# Altium schematic symbol library Chip_SOP.SchLib: 4 symbols
Pins are listed as number, name and electrical type; pins without a type are passive.

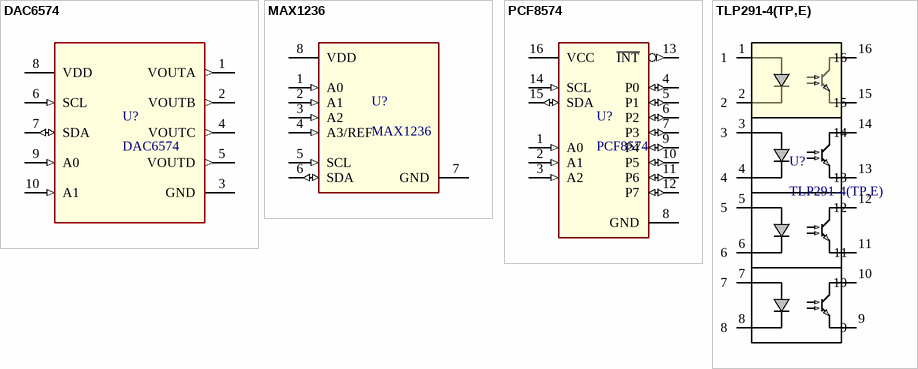
[diagram p0: symbols DAC6574 to TLP291-4(TP,E)]

## DAC6574
designator U?
footprint TSSOP50P490X110-10N (TSSOP, 10-Leads, Body 3.00x3.00mm, Pitch 0.50mm, IPC Medium Density)
pins: 1 VOUTA (out), 2 VOUTB (out), 3 GND (power), 4 VOUTC (out), 5 VOUTD (out), 6 SCL (in), 7 SDA (io), 8 VDD (power), 9 A0 (in), 10 A1 (in)

## MAX1236
designator U?
footprint TSOP65P490X110-8N (TSOP, 8-Leads, Body 3.00x3.00mm, Pitch 0.65mm, IPC Medium Density)
pins: 1 A0 (in), 2 A1 (in), 3 A2 (in), 4 A3/REF (in), 5 SCL (in), 6 SDA (io), 7 GND (power), 8 VDD (power)

## PCF8574
designator U?
footprint SOP127P1030X265-16N (SOP, 16-Leads, Body 10.30x7.50mm, Pitch 1.27mm, IPC Medium Density)
pins: 1 A0 (in), 2 A1 (in), 3 A2 (in), 4 P0 (io), 5 P1 (io), 6 P2 (io), 7 P3 (io), 8 GND (power), 9 P4 (io), 10 P5 (io), 11 P6 (io), 12 P7 (io), 13 ~{INT} (out), 14 SCL (in), 15 SDA (io), 16 VCC (power)

## TLP291-4(TP,E)
designator U?
Optocoupler DC-IN 4-CH Transistor DC-OUT 16-Pin SO T/R; Manufacturer: Toshiba; Forward Voltage: 1.2V; Number of Channels: 4; Forward Current: 50mA; Reverse Breakdown Voltage: 5V; Collector Emitter Voltage (VCEO): 80V; Power Dissipation: 170mW; Current Transfer Ratio: 400%; Input Type: DC; Collector-emitter Voltage-Max: 400mV; Max Supply Voltage: 1.4V; Supplier: Digikey; Supplier Part Number: TLP291-4(TPE)DKR-ND; Manufacturer Part Number: TLP291-4(TP,E); RoHS: Yes; Category: Optocouplers; Pricing: 1=1.59, 10=1.001, 100=0.7031, 500=0.58582, 1000=0.54981 (USD); Mounting Technology: Surface Mount; Case/Package: SO; Pins: 16; Min Operating Temperature: -55°C; Max Operating Temperature: 110°C; Packaging: Tape and Reel; Package Quantity: 1; Number of Elements: 4; Max Output Voltage: 80V; Series: -; Output Current per Channel: 50mA; Max Output current: 50mA; Max Power Dissipation: 170mW; Output Voltage: 80V; Collector Emitter Saturation Voltage: 400mV; Max Collector Current: 50mA; Max Input Current: 50mA; Radiation Hardening: No; RoHS Compliant: Yes; ComponentLink1URL: https://datasheet.ciiva.com/4701/tlp291-4-204553-4701782.pdf?src-supplier=Mouser; ComponentLink1Description: https://datasheet.ciiva.com/4701/tlp291-4-204553-4701782.pdf?src-supplier=Mouser; ComponentLink2URL: https://datasheet.ciiva.com/41859/half-pitch4-chtransphotocouplersref-41859910.pdf?src-supplier=Digikey; ComponentLink2Description: https://datasheet.ciiva.com/41859/half-pitch4-chtransphotocouplersref-41859910.pdf?src-supplier=Digikey
footprint SOP_OPTO_16N (SOP, 16-Leads, Body 10.35x4.60mm, Pitch 1.27mm, IPC Medium Density)
pins: 1, 2, 3, 4, 5, 6, 7, 8, 9, 10, 11, 12, 13, 14, 15, 16